# EAGLE library part NE5532DR (library heights-no-branding)
NE5532DR, Dual Operational Amplifier 10MHz, 8-Pin SOIC Source: Datasheet <http://www.ti.com/lit/ds/symlink/ne5532.pdf>
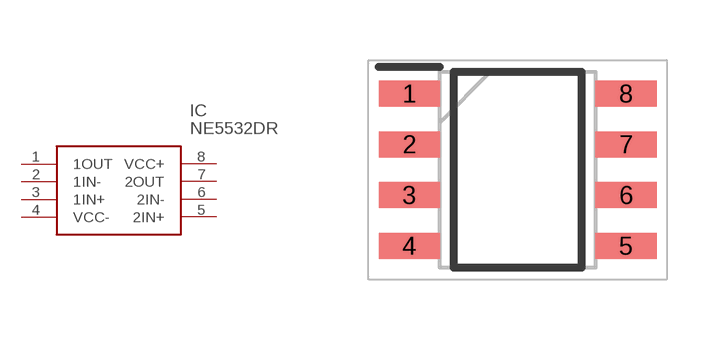
[diagram p0: symbol with the pads of SOIC127P600X175-8N; footprint SOIC127P600X175-8N]

Designator prefix IC

## NE5532DR (DESCRIPTION: NE5532DR, Dual Operational Amplifier 10MHz, 8-Pin SOIC; HEIGHT: 1.75mm; MANUFACTURER_NAME: Texas Instruments; MANUFACTURER_PART_NUMBER: NE5532DR; MOUSER_PART_NUMBER: 595-NE5532DR; MOUSER_PRICE-STOCK: https://www.mouser.co.uk/ProductDetail/Texas-Instruments/NE5532DR?qs=LzFo6vGRJ4tu9UjwVgwNUQ%3D%3D)  [SOIC127P600X175-8N]
1  1OUT
2  1IN-
3  1IN+
4  VCC-
5  2IN+
6  2IN-
7  2OUT
8  VCC+

## Footprint SOIC127P600X175-8N (pad centres in mm)
D
smd 1.528 x 0.65: 1 -2.711,1.905; 2 -2.711,0.635; 3 -2.711,-0.635; 4 -2.711,-1.905; 5 2.711,-1.905; 6 2.711,-0.635; 7 2.711,0.635; 8 2.711,1.905